# Altium footprint library BQ4050.PcbLib: 55 footprints (part 4 of 4)
Each footprint in its own frame and in the unit in brackets; x right, y up, seen from the top. Pads: shape width x height; smd on the part's side, far side on the other; paste and mask are expansions set on the pad; w line width, h text height; cw(c..) or ccw(c..) is an arc to the next point about the centre after c.
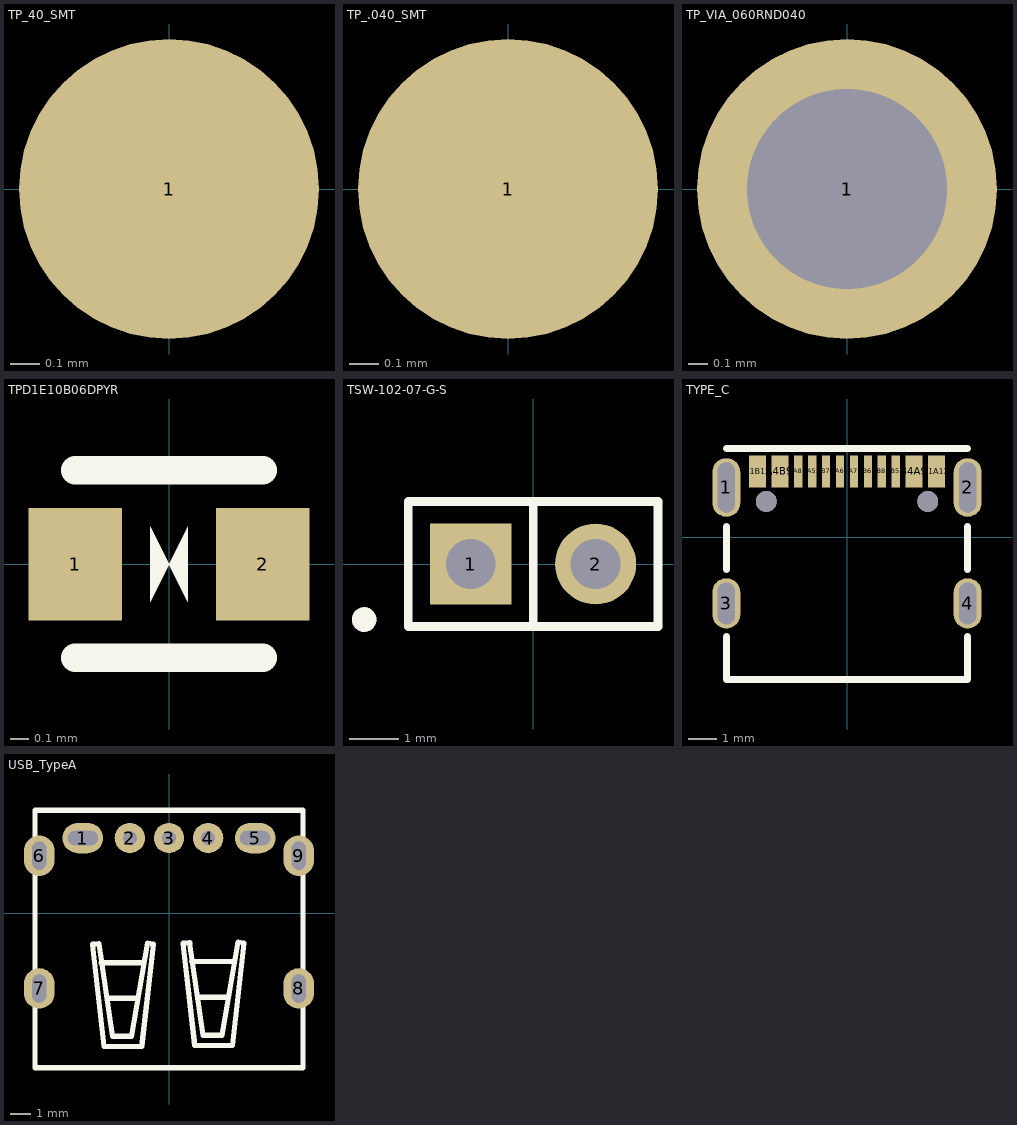
[diagram p3: the footprints below, top view; thin cyan lines are the x and y axes]

## TP_40_SMT [mil]
pads (1):
  round 40 smd: 1(0,0)

## TP_.040_SMT [mil]
pads (1):
  round 40 smd: 1(0,0)

## TP_VIA_060RND040 [mil] "TP_VIA_060RND040"
pads (1):
  round 60 hole 40: 1(0,0)

## TPD1E10B06DPYR [mm]
pads (2):
  rect 0.5x0.6 smd: 1(-0.5,0) 2(0.5,0)
Top Overlay:
  region: 0.1,-0.2 0.1,0.2 0,0
  region: -0.1,0.2 -0.1,-0.2 0,0
  lines w0.15: -0.5,-0.5 0.5,-0.5 ; -0.5,0.5 0.5,0.5

## TSW-102-07-G-S [mm] "Samtec 100mil, 1x2, 230 mil above insulator"
height 8.382
pads (2):
  rect 1.65x1.65 hole 1.016 mask+0: 1(-1.27,0)
  round 1.65 hole 1.016 mask+0: 2(1.27,0)
Top Overlay:
  circle w0.25: c-3.44,-1.13 r0.125
  lines w0.178: 0,-1.27 0,1.27 ; -2.54,-1.27 -2.54,1.27 2.54,1.27 2.54,-1.27 -2.54,-1.27
Mechanical 5:
  circle w0.25: c-3.44,-1.13 r0.125
  lines w0.127: -2.54,-1.27 2.54,-1.27 2.54,1.27 -2.54,1.27 -2.54,-1.27
3D body "SamtecTSW-07_2x1.stp": height 8.38, standoff -2.54, extent -2.54,-1.27 2.54,1.27

## TYPE_C [mm]
pads (18):
  oval 1x2.099 hole 0.61 slot 1.8 at 90 deg: 1(-4.32,1.787) 2(4.32,1.787)
  oval 1x1.799 hole 0.61 slot 1.5 at 90 deg: 3(-4.32,-2.363) 4(4.32,-2.363)
  rect 0.6x1.15 smd: A1B12(-3.2,2.362) A4B9(-2.4,2.362) B1A12(3.2,2.362) B4A9(2.4,2.362)
  rect 0.3x1.15 smd: A5(-1.25,2.362) A6(-0.25,2.362) A7(0.25,2.362) A8(-1.75,2.362) B5(1.75,2.362) B6(0.75,2.362) B7(-0.75,2.362) B8(1.25,2.362)
  round 0.75 hole 0.75 unplated: ""(-2.89,1.288) ""(2.89,1.288)
Top Overlay:
  lines w0.254: -4.318,-3.556 -4.318,-5.08 4.318,-5.08 4.318,-3.556 ; -4.318,-1.143 -4.318,0.381 ; -4.318,3.175 4.318,3.175 ; 4.318,-1.143 4.318,0.381
3D body "12401548E4#2A.stp": height 3.28, standoff -0.8, extent -4.526,-7.722 4.674,2.778

## USB_TypeA [mm]
pads (9):
  oval 1.999x1.5 hole 0.7 slot 1.5 at 0 deg: 1(-4.25,3.71) 5(4.25,3.71)
  round 1.5 hole 0.7: 2(-1.93,3.71) 3(0,3.71) 4(1.93,3.71)
  oval 1.5x1.999 hole 0.7 slot 1.4 at 90 deg: 6(-6.4,2.84) 7(-6.4,-3.71) 8(6.4,-3.71) 9(6.4,2.84)
Top Overlay:
  lines w0.254: -3.353,-2.438 -1.27,-2.438 ; -3.023,-4.191 -1.575,-4.191 ; 1.118,-2.388 3.2,-2.388 ; 1.448,-4.14 2.896,-4.14 ; -6.604,-7.62 6.604,-7.62 6.604,5.08 -6.604,5.08 -6.604,-7.62 ; -3.782,-1.532 -3.449,-1.506 -2.794,-6.071 -1.854,-6.071 -1.067,-1.473 -0.762,-1.524 -1.346,-6.579 -3.2,-6.579 -3.782,-1.532 ; 0.688,-1.481 1.27,-6.528 3.124,-6.528 3.708,-1.473 3.404,-1.422 2.616,-6.02 1.676,-6.02 1.021,-1.455 0.688,-1.481